# Altium schematic symbol library LTC4100.SchLib: 1 symbol
Pins are listed as number, name and electrical type; pins without a type are passive.

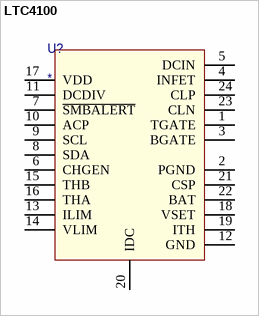
[diagram p0: symbol LTC4100]

## LTC4100
designator U?
pins: 1 TGATE, 2 PGND, 3 BGATE, 4 INFET, 5 DCIN, 6 CHGEN, 7 ~{SMBALERT}, 8 SDA, 9 SCL, 10 ACP, 11 DCDIV, 12 GND, 13 ILIM, 14 VLIM, 15 THB, 16 THA, 17 VDD, 18 VSET, 19 ITH, 20 IDC, 21 CSP, 22 BAT, 23 CLN, 24 CLP